# EAGLE library part 7499311001 (library Wurth Electronics Midcom Inc V1-0)
Package Style: HPLE RJ45 Gigabit PoE Mounting: THT LED: None Shield: 293-0597 Header: 183-0219 Windings Primary: Aux: Secondary: Best pinouts for production vary per application. Please contact Wurth Electronics Midcom, Inc. for assistance with your custom design. Datasheet: 7499311001 <http://katalog.we-online.de/kataloge/eisos/media/pdf/7499311001.pdf> Website: Wurth Electronics Midcom <http://www.we-online.com/midcom> Contact us Wurth Electronics Midcom, Inc. 121 Airport Dr. Watertown, SD 57201 Phone: (605) 886-4385 Fax: (605) 886-4486 E-Mail: midcom@we-online.com
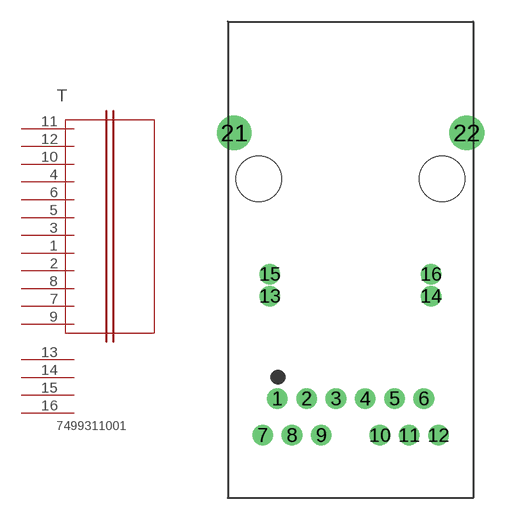
[diagram p184: symbol with the pads of 01LAN_RJ45_GIGABIT_POE; footprint 01LAN_RJ45_GIGABIT_POE]

Designator prefix T

## 7499311001  [01LAN_RJ45_GIGABIT_POE]
1  8  pas
2  9  pas
3  7  pas
4  4  pas
5  6  pas
6  5  pas
7  11  pas
8  10  pas
9  12  pas
10  3  pas
11  1  pas
12  2  pas
13  13  pas
14  14  pas
15  15  pas
16  16  pas

## Footprint 01LAN_RJ45_GIGABIT_POE (pad centres in mm)
Package Style: RJ45 Gigabit Po Mounting: THT LED: None
drill 0.914 round: 1 -5.08,-9.627; 2 -3.048,-9.627; 3 -1.016,-9.627; 4 1.016,-9.627; 5 3.048,-9.627; 6 5.08,-9.627; 7 -6.096,-12.167; 8 -4.064,-12.167; 9 -2.032,-12.167; 10 2.032,-12.167; 11 4.064,-12.167; 12 6.096,-12.167; 13 -5.588,-2.515; 14 5.588,-2.515; 15 -5.588,-0.991; 16 5.588,-0.991
drill 1.6 round: 21 -8.065,8.788; 22 8.065,8.788
hole 3.15 at -6.35,5.613
hole 3.15 at 6.35,5.613